# Altium schematic symbol library 544UD2A OSM.Schlib: 1 symbol
Pins are listed as number, name and electrical type; pins without a type are passive.

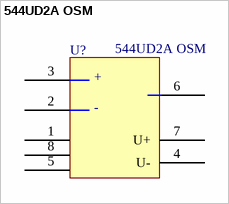
[diagram p0: symbol 544UD2A OSM]

## 544UD2A OSM
designator U?
Наименование: 544УД2А ОСМ; Назначение: Операционный усилитель
footprint 544УД2А
pins: 1 correction, 2 INV_IN, 3 IN, 4 U-, 5 balance, 6 OUT, 7 U+, 8 correction
text: +; -